# EAGLE library part MPE_714-4-050_T1200XE (library ferry_con)
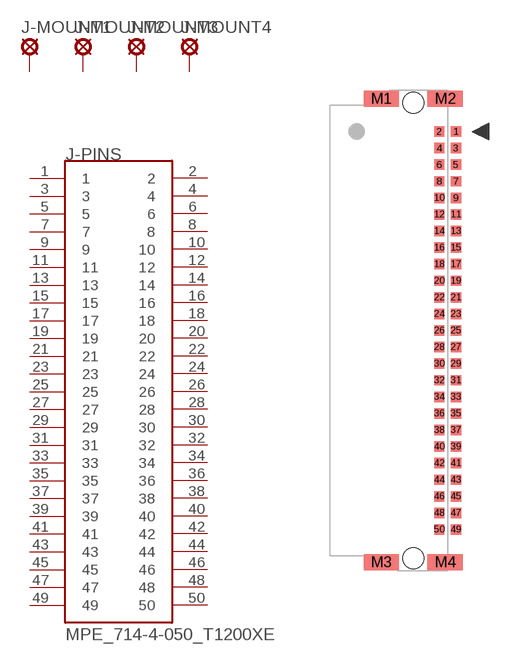
[diagram p2: symbol with the pads of MPE_714-4-050_T1200XE; footprint MPE_714-4-050_T1200XE]

Designator prefix J; gates -MOUNT1=LSP -MOUNT2=LSP -MOUNT3=LSP -MOUNT4=LSP -PINS=T1200XE-RAM

## MPE_714-4-050_T1200XE  [MPE_714-4-050_T1200XE]
1  -PINS:1
2  -PINS:2
3  -PINS:3
4  -PINS:4
5  -PINS:5
6  -PINS:6
7  -PINS:7
8  -PINS:8
9  -PINS:9
10  -PINS:10
11  -PINS:11
12  -PINS:12
13  -PINS:13
14  -PINS:14
15  -PINS:15
16  -PINS:16
17  -PINS:17
18  -PINS:18
19  -PINS:19
20  -PINS:20
21  -PINS:21
22  -PINS:22
23  -PINS:23
24  -PINS:24
25  -PINS:25
26  -PINS:26
27  -PINS:27
28  -PINS:28
29  -PINS:29
30  -PINS:30
31  -PINS:31
32  -PINS:32
33  -PINS:33
34  -PINS:34
35  -PINS:35
36  -PINS:36
37  -PINS:37
38  -PINS:38
39  -PINS:39
40  -PINS:40
41  -PINS:41
42  -PINS:42
43  -PINS:43
44  -PINS:44
45  -PINS:45
46  -PINS:46
47  -PINS:47
48  -PINS:48
49  -PINS:49
50  -PINS:50
M1  -MOUNT1:MP  pas
M2  -MOUNT2:MP  pas
M3  -MOUNT3:MP  pas
M4  -MOUNT4:MP  pas

## Footprint MPE_714-4-050_T1200XE (pad centres in mm)
smd 0.8 x 0.8: 1 0.635,15.24; 2 -0.635,15.24; 3 0.635,13.97; 4 -0.635,13.97; 5 0.635,12.7; 6 -0.635,12.7; 7 0.635,11.43; 8 -0.635,11.43; 9 0.635,10.16; 10 -0.635,10.16; 11 0.635,8.89; 12 -0.635,8.89; 13 0.635,7.62; 14 -0.635,7.62; 15 0.635,6.35; 16 -0.635,6.35; 17 0.635,5.08; 18 -0.635,5.08; 19 0.635,3.81; 20 -0.635,3.81; 21 0.635,2.54; 22 -0.635,2.54; 23 0.635,1.27; 24 -0.635,1.27; 25 0.635,0; 26 -0.635,0; 27 0.635,-1.27; 28 -0.635,-1.27; 29 0.635,-2.54; 30 -0.635,-2.54; 31 0.635,-3.81; 32 -0.635,-3.81; 33 0.635,-5.08; 34 -0.635,-5.08; 35 0.635,-6.35; 36 -0.635,-6.35; 37 0.635,-7.62; 38 -0.635,-7.62; 39 0.635,-8.89; 40 -0.635,-8.89; 41 0.635,-10.16; 42 -0.635,-10.16; 43 0.635,-11.43; 44 -0.635,-11.43; 45 0.635,-12.7; 46 -0.635,-12.7; 47 0.635,-13.97; 48 -0.635,-13.97; 49 0.635,-15.24; 50 -0.635,-15.24
smd 2.7 x 1.2: M1 -5.085,17.75; M2 -0.185,17.75; M3 -5.085,-17.75; M4 -0.185,-17.75
hole 1.6 at -2.635,17.45
hole 1.6 at -2.635,-17.45